# Altium schematic symbol library STM32F048T6Y6TR.SchLib: 1 symbol
Pins are listed as number, name and electrical type; pins without a type are passive.

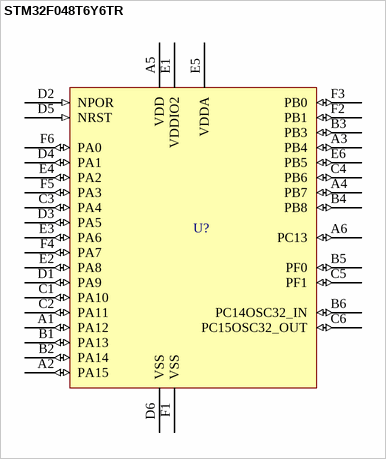
[diagram p0: symbol STM32F048T6Y6TR]

## STM32F048T6Y6TR
designator U?  (value not drawn)
Mainstream Arm Cortex-M0 Low-voltage line 1,8V MCU with 32 Kbytes of Flash memory, 48 MHz CPU, USB, CAN and CEC functions
pins: A1 PA12 (io), A2 PA15 (io), A3 PB4 (io), A4 PB7 (io), A5 VDD (power), A6 PC13 (io), B1 PA13 (io), B2 PA14 (io), B3 PB3 (io), B4 PB8 (io), B5 PF0 (io), B6 PC14OSC32_IN (io), C1 PA10 (io), C2 PA11 (io), C3 PA4 (io), C4 PB6 (io), C5 PF1 (io), C6 PC15OSC32_OUT (io), D1 PA9 (io), D2 NPOR (in), D3 PA5 (io), D4 PA1 (io), D5 NRST (in), D6 VSS (power), E1 VDDIO2 (power), E2 PA8 (io), E3 PA6 (io), E4 PA2 (io), E5 VDDA (power), E6 PB5 (io), F1 VSS (power), F2 PB1 (io), F3 PB0 (io), F4 PA7 (io), F5 PA3 (io), F6 PA0 (io)